# Altium schematic symbol library Panasonic-F4S(0.4mm间距).SchLib: 2 symbols
Pins are listed as number, name and electrical type; pins without a type are passive.

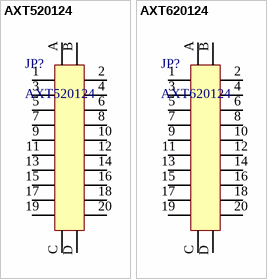
[diagram p0: symbols AXT520124 to AXT620124]

## AXT520124
designator JP?
窄间距连接器F4S(0.4mm间距)母座
footprint AXT520124 (20-PIN 插座)
pins: 1, 2, 3, 4, 5, 6, 7, 8, 9, 10, 11, 12, 13, 14, 15, 16, 17, 18, 19, 20, A, B, C, D

## AXT620124
designator JP?
窄间距连接器F4S(0.4mm间距)公头
footprint AXT620124 (20-PIN 插座)
pins: 1, 2, 3, 4, 5, 6, 7, 8, 9, 10, 11, 12, 13, 14, 15, 16, 17, 18, 19, 20, A, B, C, D